# Altium schematic symbol library NXQ1TXH5101J.SchLib: 1 symbol
Pins are listed as number, name and electrical type; pins without a type are passive.

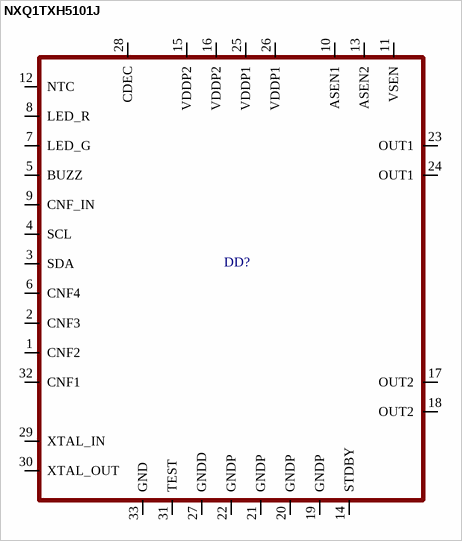
[diagram p0: symbol NXQ1TXH5101J]

## NXQ1TXH5101J
designator DD?
pins: 1 CNF2, 2 CNF3, 3 SDA, 4 SCL, 5 BUZZ, 6 CNF4, 7 LED_G, 8 LED_R, 9 CNF_IN, 10 ASEN1, 11 VSEN, 12 NTC, 13 ASEN2, 14 STDBY, 15 VDDP2, 16 VDDP2, 17 OUT2, 18 OUT2, 19 GNDP, 20 GNDP, 21 GNDP, 22 GNDP, 23 OUT1, 24 OUT1, 25 VDDP1, 26 VDDP1, 27 GNDD, 28 CDEC, 29 XTAL_IN, 30 XTAL_OUT, 31 TEST, 32 CNF1, 33 GND